# Altium footprint library 530470310.PcbLib: 1 footprints
Each footprint in its own frame and in the unit in brackets; x right, y up, seen from the top. Pads: shape width x height; smd on the part's side, far side on the other; paste and mask are expansions set on the pad; w line width, h text height; cw(c..) or ccw(c..) is an arc to the next point about the centre after c.
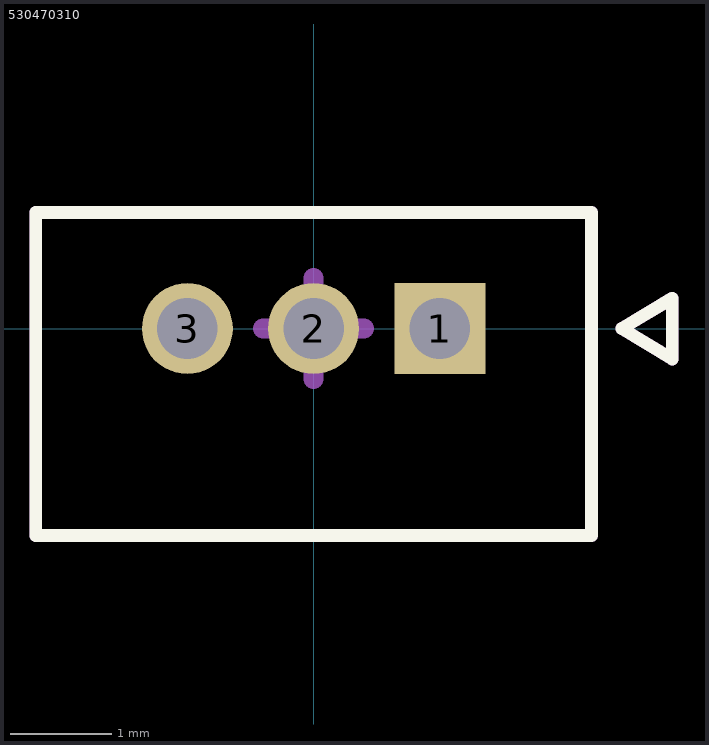
[diagram p0: the footprint, top view; thin cyan lines are the x and y axes]

## 530470310 [mm]
pads (3):
  rect 0.9x0.9 hole 0.6 mask+0: 1(1.25,0)
  round 0.9 hole 0.6 mask+0: 2(0,0) 3(-1.25,0)
Top Overlay:
  lines w0.127: -2.75,-2.05 -2.75,1.15 2.75,1.15 2.75,-2.05 -2.75,-2.05 ; 3.05,0 3.55,0.3 3.55,-0.3 3.05,0
Bottom Solder:
  circle w0.501: c-1.25,0 r0.251
  circle w0.501: c0,0 r0.251
  region: 1.751,-0.501 0.749,-0.501 0.749,0.501 1.751,0.501
Mechanical 13:
  lines w0.127: -2.75,-2.05 -2.75,1.15 2.75,1.15 2.75,-2.05 -2.75,-2.05 ; 3.05,0 3.55,0.3 3.55,-0.3 3.05,0
Mechanical 15:
  lines w0.2: -0.5,0 0.5,0 ; 0,-0.5 0,0.5
3D body "step_temp.STEP": height 4.21, standoff -2.29, extent -2.75,-2.05 2.75,1.15